# Altium footprint library PLCC84AT.PcbLib: 1 footprints
Each footprint in its own frame and in the unit in brackets; x right, y up, seen from the top. Pads: shape width x height; smd on the part's side, far side on the other; paste and mask are expansions set on the pad; w line width, h text height; cw(c..) or ccw(c..) is an arc to the next point about the centre after c.
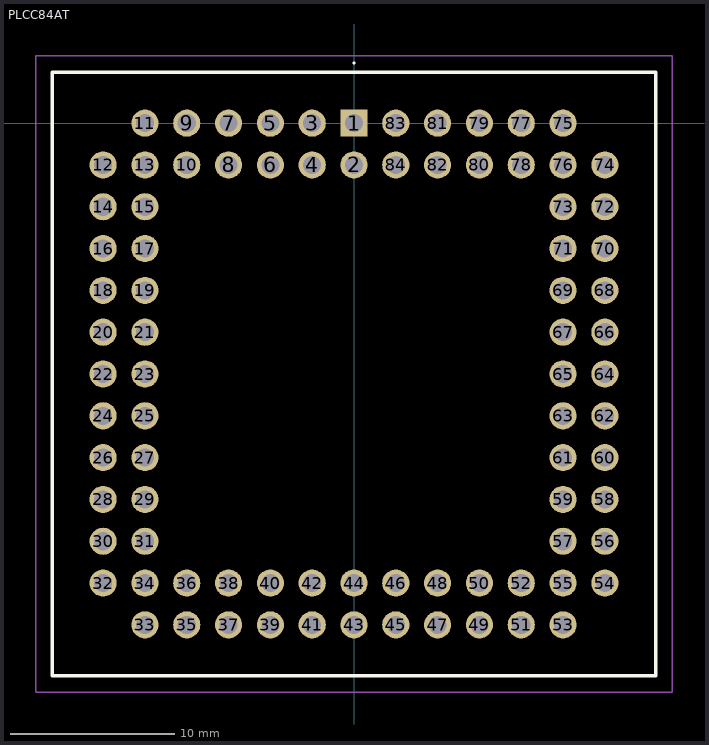
[diagram p0: the footprint, top view; thin cyan lines are the x and y axes]

## PLCC84AT [mm]
pads (84):
  rect 1.65x1.65 hole 1.1: 1(0,0)
  round 1.65 hole 1.1: 2(0,-2.54) 3(-2.54,0) 4(-2.54,-2.54) 5(-5.08,0) 6(-5.08,-2.54) 7(-7.62,0) 8(-7.62,-2.54) 9(-10.16,0) 10(-10.16,-2.54) 11(-12.7,0) 12(-15.24,-2.54) 13(-12.7,-2.54) 14(-15.24,-5.08) 15(-12.7,-5.08) 16(-15.24,-7.62) 17(-12.7,-7.62) 18(-15.24,-10.16) 19(-12.7,-10.16) 20(-15.24,-12.7) 21(-12.7,-12.7) 22(-15.24,-15.24) 23(-12.7,-15.24) 24(-15.24,-17.78) 25(-12.7,-17.78) 26(-15.24,-20.32) 27(-12.7,-20.32) 28(-15.24,-22.86) 29(-12.7,-22.86) 30(-15.24,-25.4) 31(-12.7,-25.4) 32(-15.24,-27.94) 33(-12.7,-30.48) 34(-12.7,-27.94) 35(-10.16,-30.48) 36(-10.16,-27.94) 37(-7.62,-30.48) 38(-7.62,-27.94) 39(-5.08,-30.48) 40(-5.08,-27.94) 41(-2.54,-30.48) 42(-2.54,-27.94) 43(0,-30.48) 44(0,-27.94) 45(2.54,-30.48) 46(2.54,-27.94) 47(5.08,-30.48) 48(5.08,-27.94) 49(7.62,-30.48) 50(7.62,-27.94) 51(10.16,-30.48) 52(10.16,-27.94) 53(12.7,-30.48) 54(15.24,-27.94) 55(12.7,-27.94) 56(15.24,-25.4) 57(12.7,-25.4) 58(15.24,-22.86) 59(12.7,-22.86) 60(15.24,-20.32) 61(12.7,-20.32) 62(15.24,-17.78) 63(12.7,-17.78) 64(15.24,-15.24) 65(12.7,-15.24) 66(15.24,-12.7) 67(12.7,-12.7) 68(15.24,-10.16) 69(12.7,-10.16) 70(15.24,-7.62) 71(12.7,-7.62) 72(15.24,-5.08) 73(12.7,-5.08) 74(15.24,-2.54) 75(12.7,0) 76(12.7,-2.54) 77(10.16,0) 78(10.16,-2.54) 79(7.62,0) 80(7.62,-2.54) 81(5.08,0) 82(5.08,-2.54) 83(2.54,0) 84(2.54,-2.54)
Top Overlay:
  lines w0.1: 0,3.6 cw(c0,3.65) 0,3.7 ; 0,3.6 0,3.6 ; 0,3.6 ccw(c0,3.65) 0,3.7 ; 0,3.7 0,3.7
  lines w0.2: -18.33,-33.57 18.33,-33.57 18.33,3.09 -18.33,3.09 -18.33,-33.57
Mechanical 15:
  lines w0.1: -18.33,-33.57 18.33,-33.57 18.33,3.09 -18.33,3.09 -18.33,-33.57
Mechanical 20:
  lines w0.1: -19.33,-34.57 19.33,-34.57 19.33,4.09 -19.33,4.09 -19.33,-34.57